# Altium schematic symbol library radxa_cm3s_io_board_v1510_Library.SchLib: 96 symbols (part 2 of 2)
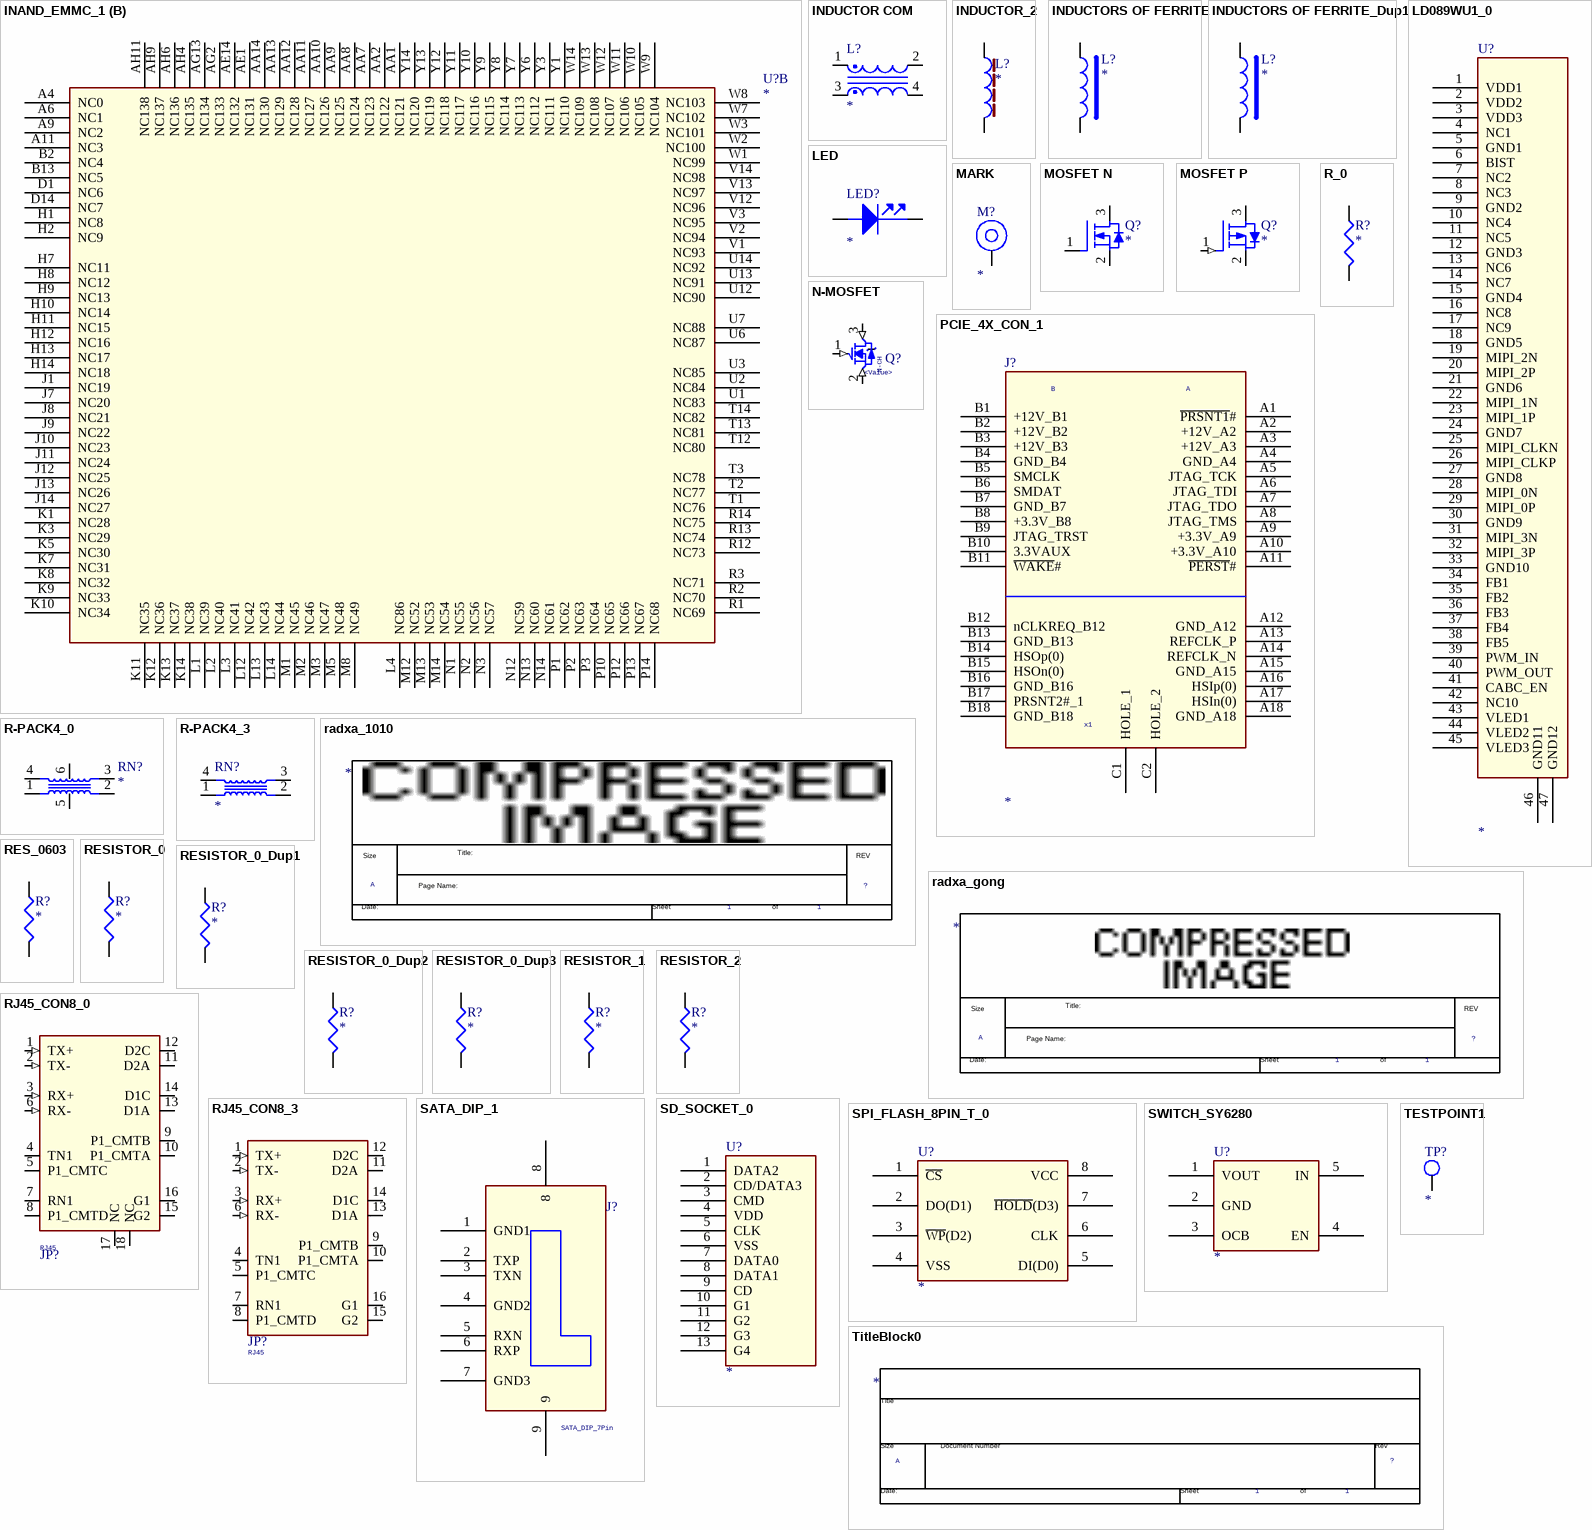
[diagram p15: symbols INAND_EMMC_1 to TitleBlock0]

## INAND_EMMC_1
designator U?
part A pins: 1 DCD, 2 RI, 3 GND, 4 DP, 5 DM, 6 VDD, 7 REGIN, 8 VBUS, 9 RESET, 10 NC, 11 SUSPEND, 12 SUSPEND1, 13 NC, 14 NC, 15 NC, 16 NC, 17 NC, 18 NC, 19 NC, 20 NC, 21 NC, 22 NC, 23 CTS, 24 RTS, 25 RXD, 26 TXD, 27 DSR, 28 DTR, 29 GND
part B pins: A4 NC0, A6 NC1, A9 NC2, A11 NC3, AA1 NC121, AA2 NC122, AA7 NC123, AA8 NC124, AA9 NC125, AA10 NC126, AA11 NC127, AA12 NC128, AA13 NC129, AA14 NC130, AE1 NC131, AE14 NC132, AG2 NC133, AG13 NC134, AH4 NC135, AH6 NC136, AH9 NC137, AH11 NC138, B2 NC4, B13 NC5, D1 NC6, D14 NC7, H1 NC8, H2 NC9, H7 NC11, H8 NC12, H9 NC13, H10 NC14, H11 NC15, H12 NC16, H13 NC17, H14 NC18, J1 NC19, J7 NC20, J8 NC21, J9 NC22, J10 NC23, J11 NC24, J12 NC25, J13 NC26, J14 NC27, K1 NC28, K3 NC29, K5 NC30, K7 NC31, K8 NC32, K9 NC33, K10 NC34, K11 NC35, K12 NC36, K13 NC37, K14 NC38, L1 NC39, L2 NC40, L3 NC41, L4 NC86, L12 NC42, L13 NC43, L14 NC44, M1 NC45, M2 NC46, M3 NC47, M5 NC48, M8 NC49, M12 NC52, M13 NC53, M14 NC54, N1 NC55, N2 NC56, N3 NC57, N12 NC59, N13 NC60, N14 NC61, P1 NC62, P2 NC63, P3 NC64, P10 NC65, P12 NC66, P13 NC67, P14 NC68, R1 NC69, R2 NC70, R3 NC71, R12 NC73, R13 NC74, R14 NC75, T1 NC76, T2 NC77, T3 NC78, T12 NC80, T13 NC81, T14 NC82, U1 NC83, U2 NC84, U3 NC85, U6 NC87, U7 NC88, U12 NC90, U13 NC91, U14 NC92, V1 NC93, V2 NC94, V3 NC95, V12 NC96, V13 NC97, V14 NC98, W1 NC99, W2 NC100, W3 NC101, W7 NC102, W8 NC103, W9 NC104, W10 NC105, W11 NC106, W12 NC107, W13 NC108, W14 NC109, Y1 NC110, Y3 NC111, Y6 NC112, Y7 NC113, Y8 NC114, Y9 NC115, Y10 NC116, Y11 NC117, Y12 NC118, Y13 NC119, Y14 NC120

## INDUCTOR COM
designator L?
footprint L0402D
pins: 1, 2, 3, 4

## INDUCTOR_2
designator L?
pins: 1, 2

## INDUCTORS OF FERRITE
designator L?
pins: 1, 2

## INDUCTORS OF FERRITE_Dup1
designator L?
pins: 1, 2

## LD089WU1_0
designator U?
pins: 1 VDD1, 2 VDD2, 3 VDD3, 4 NC1, 5 GND1, 6 BIST, 7 NC2, 8 NC3, 9 GND2, 10 NC4, 11 NC5, 12 GND3, 13 NC6, 14 NC7, 15 GND4, 16 NC8, 17 NC9, 18 GND5, 19 MIPI_2N, 20 MIPI_2P, 21 GND6, 22 MIPI_1N, 23 MIPI_1P, 24 GND7, 25 MIPI_CLKN, 26 MIPI_CLKP, 27 GND8, 28 MIPI_0N, 29 MIPI_0P, 30 GND9, 31 MIPI_3N, 32 MIPI_3P, 33 GND10, 34 FB1, 35 FB2, 36 FB3, 37 FB4, 38 FB5, 39 PWM_IN, 40 PWM_OUT, 41 CABC_EN, 42 NC10, 43 VLED1, 44 VLED2, 45 VLED3, 46 GND11, 47 GND12

## LED
designator LED?
pins: 1 ANODE, 2 CATHODE

## MARK
designator M?
pins: 1

## MOSFET N
designator Q?
footprint SOT23
pins: 1 GATE, 2 SOURCE, 3 DRAIN

## MOSFET P
designator Q?
footprint SOT23
pins: 1 GATE (in), 2 SOURCE, 3 DRAIN

## N-MOSFET
designator Q?, comment <Value>
footprint S0T-23
pins: 1 G (in), 2 S (in), 3 D (in)
text: N-CH

## PCIE_4X_CON_1
designator J?
pins: A1 ~{PRSNT1}#, A2 +12V_A2, A3 +12V_A3, A4 GND_A4, A5 JTAG_TCK, A6 JTAG_TDI, A7 JTAG_TDO, A8 JTAG_TMS, A9 +3.3V_A9, A10 +3.3V_A10, A11 ~{PERST}#, A12 GND_A12, A13 REFCLK_P, A14 REFCLK_N, A15 GND_A15, A16 HSIp(0), A17 HSIn(0), A18 GND_A18, B1 +12V_B1, B2 +12V_B2, B3 +12V_B3, B4 GND_B4, B5 SMCLK, B6 SMDAT, B7 GND_B7, B8 +3.3V_B8, B9 JTAG_TRST, B10 3.3VAUX, B11 ~{WAKE}#, B12 nCLKREQ_B12, B13 GND_B13, B14 HSOp(0), B15 HSOn(0), B16 GND_B16, B17 PRSNT2#_1, B18 GND_B18, C1 HOLE_1, C2 HOLE_2
text: B; A; x1

## R-PACK4_0
designator RN?
pins: 1 R1, 2 R4, 3 R3, 4 R2, 5, 6

## R-PACK4_3
designator RN?
pins: 1 R1, 2 R4, 3 R3, 4 R2

## R_0
designator R?
pins: 1, 2

## radxa_1010
designator *  Page Count: 1  Page Size: A  (graphical)
Page Number: 1; RevCode: ?; Page Create Date: March  8, 1995
text: Title:; Size; REV; Page Name:; Date:; Sheet; of

## radxa_gong
designator *  Page Count: 1  Page Size: A  (graphical)
Page Number: 1; RevCode: ?; Page Create Date: March  8, 1995
text: Size; Title:; REV; Page Name:; Date:; Sheet; of

## RES_0603
designator R?
footprint R0603
pins: 1, 2

## RESISTOR_0
designator R?
footprint R0402
pins: 1, 2

## RESISTOR_0_Dup1
designator R?
footprint R0402
pins: 1, 2

## RESISTOR_0_Dup2
designator R?
footprint R0402
pins: 1, 2

## RESISTOR_0_Dup3
designator R?
pins: 1, 2

## RESISTOR_1
designator R?
pins: 1, 2

## RESISTOR_2
designator R?
footprint R0402
pins: 1, 2

## RJ45_CON8_0
designator JP?, comment RJ45
footprint RJ45_CON8
pins: 1 TX+ (in), 2 TX- (in), 3 RX+ (in), 4 TN1 (hiz), 5 P1_CMTC (hiz), 6 RX- (in), 7 RN1 (hiz), 8 P1_CMTD (hiz), 9 P1_CMTB, 10 P1_CMTA, 11 D2A, 12 D2C, 13 D1A, 14 D1C, 15 G2, 16 G1, 17 NC, 18 NC

## RJ45_CON8_3
designator JP?, comment RJ45
footprint RJ45_CON8
pins: 1 TX+ (in), 2 TX- (in), 3 RX+ (in), 4 TN1 (hiz), 5 P1_CMTC (hiz), 6 RX- (in), 7 RN1 (hiz), 8 P1_CMTD (hiz), 9 P1_CMTB, 10 P1_CMTA, 11 D2A, 12 D2C, 13 D1A, 14 D1C, 15 G2, 16 G1

## SATA_DIP_1
designator J?, comment SATA_DIP_7Pin
pins: 1 GND1, 2 TXP, 3 TXN, 4 GND2, 5 RXN, 6 RXP, 7 GND3, 8, 9

## SD_SOCKET_0
designator U?
pins: 1 DATA2, 2 CD/DATA3, 3 CMD, 4 VDD, 5 CLK, 6 VSS, 7 DATA0, 8 DATA1, 9 CD, 10 G1, 11 G2, 12 G3, 13 G4

## SPI_FLASH_8PIN_T_0
designator U?
pins: 1 ~{CS}, 2 DO(D1), 3 ~{WP}(D2), 4 VSS, 5 DI(D0), 6 CLK, 7 ~{HOLD}(D3), 8 VCC

## SWITCH_SY6280
designator U?
pins: 1 VOUT, 2 GND, 3 OCB, 4 EN, 5 IN

## TESTPOINT1
designator TP?
footprint TEST
pins: 1

## TitleBlock0
designator *  Page Count: 1  Page Size: A  (graphical)
Page Number: 1; RevCode: ?; Page Create Date: March  8, 1995
text: Title; Size; Document Number; Rev; Date:; Sheet; of

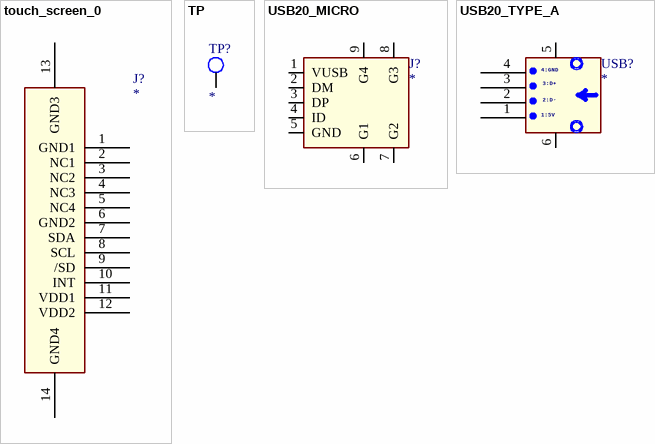
[diagram p14: symbols touch_screen_0 to USB20_TYPE_A]

## touch_screen_0
designator J?
pins: 1 GND1, 2 NC1, 3 NC2, 4 NC3, 5 NC4, 6 GND2, 7 SDA, 8 SCL, 9 /SD, 10 INT, 11 VDD1, 12 VDD2, 13 GND3, 14 GND4

## TP
designator TP?
footprint TEST
pins: 1

## USB20_MICRO
designator J?
footprint USB-5PAA
pins: 1 VUSB, 2 DM, 3 DP, 4 ID, 5 GND, 6 G1, 7 G2, 8 G3, 9 G4

## USB20_TYPE_A
designator USB?
footprint USB20
pins: 1, 2, 3, 4, 5, 6
text: 4:GND; 3:D+; 2:D-; 1:5V